# EAGLE library part SX70-7-PAD-HOLES-PROPER (library _openSX70)
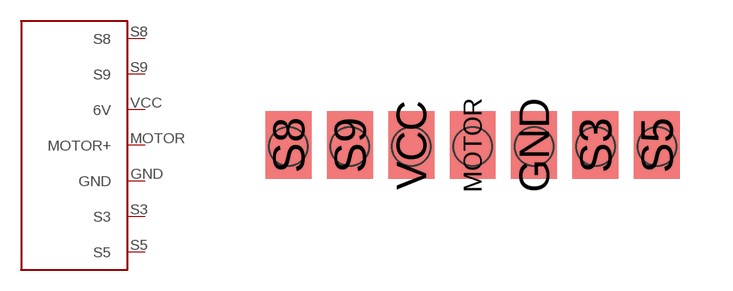
[diagram p11: symbol with the pads of SX70-7-PAD-PROPER-HOLES2; footprint SX70-7-PAD-PROPER-HOLES2]

Designator prefix -

## SX70-7-PAD-HOLES-PROPER  [SX70-7-PAD-PROPER-HOLES2]
GND  GND
MOTOR  MOTOR+
S3  S3
S5  S5
S8  S8
S9  S9
VCC  6V

## Footprint SX70-7-PAD-PROPER-HOLES2 (pad centres in mm)
smd 1.31 x 1.93: GND 7.875,1.355; MOTOR 6.125,1.355; S3 9.625,1.355; S5 11.375,1.355; S8 0.875,1.355; S9 2.625,1.355; VCC 4.375,1.355
hole 1.1 at 0.875,1.312
hole 1.1 at 2.625,1.312
hole 1.1 at 4.375,1.312
hole 1.1 at 6.125,1.312
hole 1.1 at 7.875,1.312
hole 1.1 at 9.625,1.312
hole 1.1 at 11.375,1.312